# EAGLE library part KTS1622EUAA-TR (library KTS1622EUAA-TR)
Interface - I/O Expanders Low Voltage 16-Bit I2C-bus I/O Expander Source: Datasheet
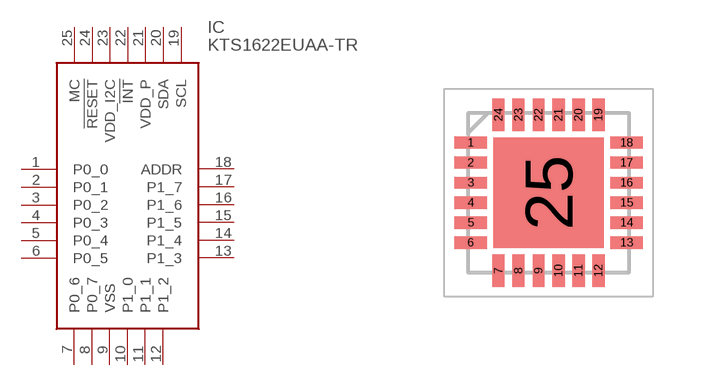
[diagram p0: symbol with the pads of QFN50P400X400X80-25N; footprint QFN50P400X400X80-25N]

Designator prefix IC

## KTS1622EUAA-TR (Description: Interface - I/O Expanders Low Voltage 16-Bit I2C-bus I/O Expander; Height: 0.8mm; Manufacturer_Name: Kinetic Technologies; Manufacturer_Part_Number: KTS1622EUAA-TR; Mouser_Part_Number: 389-KTS1622EUAA-TR; Mouser_Price-Stock: https://www.mouser.co.uk/ProductDetail/Kinetic-Technologies/KTS1622EUAA-TR?qs=Li%252BoUPsLEntEzhZXQXy6Rw%3D%3D)  [QFN50P400X400X80-25N]
1  P0_0
2  P0_1
3  P0_2
4  P0_3
5  P0_4
6  P0_5
7  P0_6
8  P0_7
9  VSS
10  P1_0
11  P1_1
12  P1_2
13  P1_3
14  P1_4
15  P1_5
16  P1_6
17  P1_7
18  ADDR
19  SCL
20  SDA
21  VDD_P
22  !INT
23  VDD_I2C
24  !RESET
25  MC

## Footprint QFN50P400X400X80-25N (pad centres in mm)
TQFN44-24 (4.00mm x 4.00mm x 0.75mm)
smd 0.8 x 0.3: 1 -1.95,1.25; 2 -1.95,0.75; 3 -1.95,0.25; 4 -1.95,-0.25; 5 -1.95,-0.75; 6 -1.95,-1.25; 13 1.95,-1.25; 14 1.95,-0.75; 15 1.95,-0.25; 16 1.95,0.25; 17 1.95,0.75; 18 1.95,1.25
smd 0.3 x 0.8: 7 -1.25,-1.95; 8 -0.75,-1.95; 9 -0.25,-1.95; 10 0.25,-1.95; 11 0.75,-1.95; 12 1.25,-1.95; 19 1.25,1.95; 20 0.75,1.95; 21 0.25,1.95; 22 -0.25,1.95; 23 -0.75,1.95; 24 -1.25,1.95
smd 2.75 x 2.75: 25 0,0